# Altium footprint library TQFP-100.PcbLib: 1 footprints
Each footprint in its own frame and in the unit in brackets; x right, y up, seen from the top. Pads: shape width x height; smd on the part's side, far side on the other; paste and mask are expansions set on the pad; w line width, h text height; cw(c..) or ccw(c..) is an arc to the next point about the centre after c.
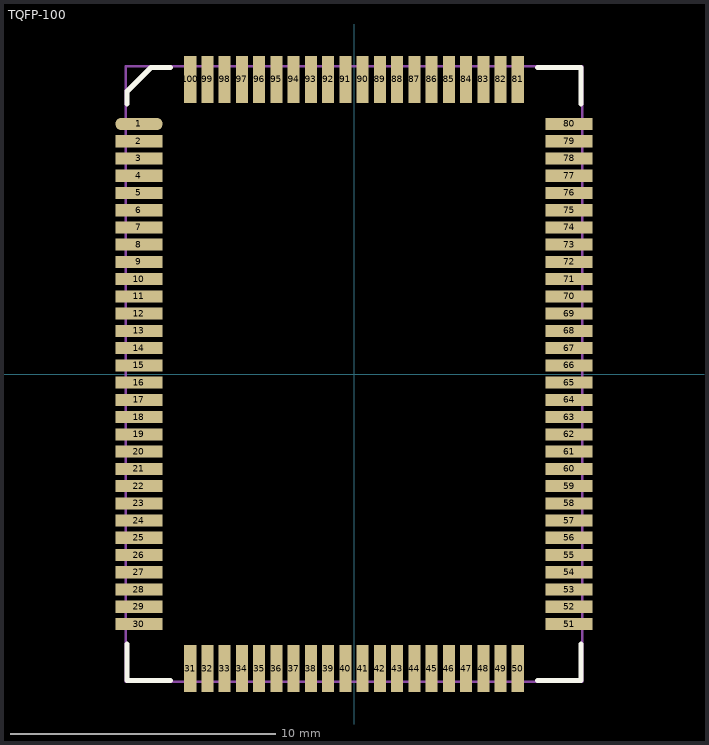
[diagram p0: the footprint, top view; thin cyan lines are the x and y axes]

## TQFP-100 [mil]
pads (100):
  oval 70x18 smd: 1(-319.1,371.06)
  rect 70x18 smd: 2(-319.1,345.47) 3(-319.1,319.88) 4(-319.1,294.29) 5(-319.1,268.7) 6(-319.1,243.11) 7(-319.1,217.52) 8(-319.1,191.93) 9(-319.1,166.34) 10(-319.1,140.75) 11(-319.1,115.16) 12(-319.1,89.57) 13(-319.1,63.98) 14(-319.1,38.39) 15(-319.1,12.8) 16(-319.1,-12.8) 17(-319.1,-38.39) 18(-319.1,-63.98) 19(-319.1,-89.57) 20(-319.1,-115.16) 21(-319.1,-140.75) 22(-319.1,-166.34) 23(-319.1,-191.93) 24(-319.1,-217.52) 25(-319.1,-243.11) 26(-319.1,-268.7) 27(-319.1,-294.29) 28(-319.1,-319.88) 29(-319.1,-345.47) 30(-319.1,-371.06) 51(319.1,-371.06) 52(319.1,-345.47) 53(319.1,-319.88) 54(319.1,-294.29) 55(319.1,-268.7) 56(319.1,-243.11) 57(319.1,-217.52) 58(319.1,-191.93) 59(319.1,-166.34) 60(319.1,-140.75) 61(319.1,-115.16) 62(319.1,-89.57) 63(319.1,-63.98) 64(319.1,-38.39) 65(319.1,-12.8) 66(319.1,12.8) 67(319.1,38.39) 68(319.1,63.98) 69(319.1,89.57) 70(319.1,115.16) 71(319.1,140.75) 72(319.1,166.34) 73(319.1,191.93) 74(319.1,217.52) 75(319.1,243.11) 76(319.1,268.7) 77(319.1,294.29) 78(319.1,319.88) 79(319.1,345.47) 80(319.1,371.06)
  rect 18x70 smd: 31(-243.11,-437.21) 32(-217.52,-437.21) 33(-191.93,-437.21) 34(-166.34,-437.21) 35(-140.75,-437.21) 36(-115.16,-437.21) 37(-89.57,-437.21) 38(-63.98,-437.21) 39(-38.39,-437.21) 40(-12.79,-437.21) 41(12.79,-437.21) 42(38.39,-437.21) 43(63.98,-437.21) 44(89.57,-437.21) 45(115.16,-437.21) 46(140.75,-437.21) 47(166.34,-437.21) 48(191.93,-437.21) 49(217.52,-437.21) 50(243.11,-437.21) 81(243.11,437.21) 82(217.52,437.21) 83(191.93,437.21) 84(166.34,437.21) 85(140.75,437.21) 86(115.16,437.21) 87(89.57,437.21) 88(63.98,437.21) 89(38.39,437.21) 90(12.79,437.21) 91(-12.79,437.21) 92(-38.39,437.21) 93(-63.98,437.21) 94(-89.57,437.21) 95(-115.16,437.21) 96(-140.75,437.21) 97(-166.34,437.21) 98(-191.93,437.21) 99(-217.52,437.21) 100(-243.11,437.21)
Top Overlay:
  lines w7.87: -336.81,-400.59 -336.81,-454.92 -272.64,-454.92 ; -336.81,400.59 -336.81,419.49 -301.38,454.92 -272.64,454.92 ; 272.64,-454.92 336.81,-454.92 336.81,-400.59 ; 272.64,454.92 336.81,454.92 336.81,400.59
Mechanical 13:
  lines w3.94: -338.58,-456.69 -338.58,456.69 338.58,456.69 338.58,-456.69 -338.58,-456.69
3D body: height 56.69, standoff 0, extent -340.55,-458.66 340.55,458.66